# Altium schematic symbol library 2020-07-05_03-20-08.SchLib: 2 symbols
Pins are listed as number, name and electrical type; pins without a type are passive.

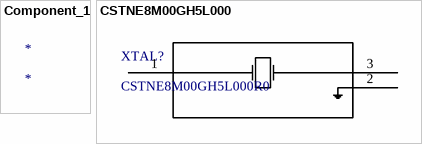
[diagram p0: symbols Component_1 to CSTNE8M00GH5L000]

## Component_1
designator *

## CSTNE8M00GH5L000
designator XTAL?, comment CSTNE8M00GH5L000R0
No Description Available; Vendor: Murata; Built_By: EMA_Cory; SourceLibrary: Murata_2020-02-28; Datasheet: https://www.murata.com/en/products/productdata/8801161805854/SPEC-CSTNE8M00GH5L000R0.pdf; Manufacturer_Part_Number: CSTNE8M00GH5L000R0; Copyright: Copyright (C) 2018 Accelerated Designs. All rights reserved; RefDes: RefDes; Type: DEV
footprint CSTNE8M00GH5L000
pins: 1 INPUT, 2 GND, 3 OUTPUT